# EAGLE library part SX1278_1 (library RadioShield)
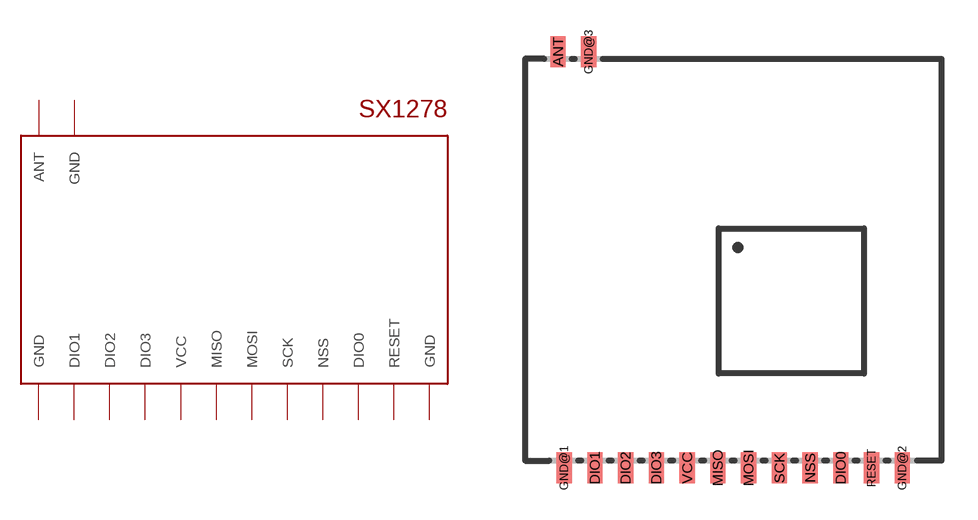
[diagram p9: symbol with the pads of SX1278_1; footprint SX1278_1]

Designator prefix -

## SX1278_1  [SX1278_1]
ANT  ANT
DIO0  DIO0
DIO1  DIO1
DIO2  DIO2
DIO3  DIO3
GND@1  GND
GND@2  GND
GND@3  GND
MISO  MISO
MOSI  MOSI
NSS  NSS
RESET  RESET
SCK  SCK
VCC  VCC

## Footprint SX1278_1 (pad centres in mm)
smd 0.635 x 1.27: ANT -7.239,8.6; DIO0 4.445,-8.6; DIO1 -5.715,-8.6; DIO2 -4.445,-8.6; DIO3 -3.175,-8.6; GND@1 -6.985,-8.6; GND@2 6.985,-8.6; GND@3 -5.969,8.6; MISO -0.635,-8.6; MOSI 0.635,-8.6; NSS 3.175,-8.6; RESET 5.715,-8.6; SCK 1.905,-8.6; VCC -1.905,-8.6